# Altium schematic symbol library MMBTH81.Schlib: 1 symbol
Pins are listed as number, name and electrical type; pins without a type are passive.

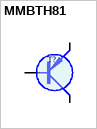
[diagram p0: symbol MMBTH81]

## MMBTH81
designator T?
SOT23     20V 50mA 600Mhz 0.85p (10V)
pins: 1 B, 2 E (oe), 3 C (oc)
1 alternate drawing of the same symbol